# Altium footprint library LD_EDFA.PcbLib: 280 footprints (part 16 of 18)
Each footprint in its own frame and in the unit in brackets; x right, y up, seen from the top. Pads: shape width x height; smd on the part's side, far side on the other; paste and mask are expansions set on the pad; w line width, h text height; cw(c..) or ccw(c..) is an arc to the next point about the centre after c.
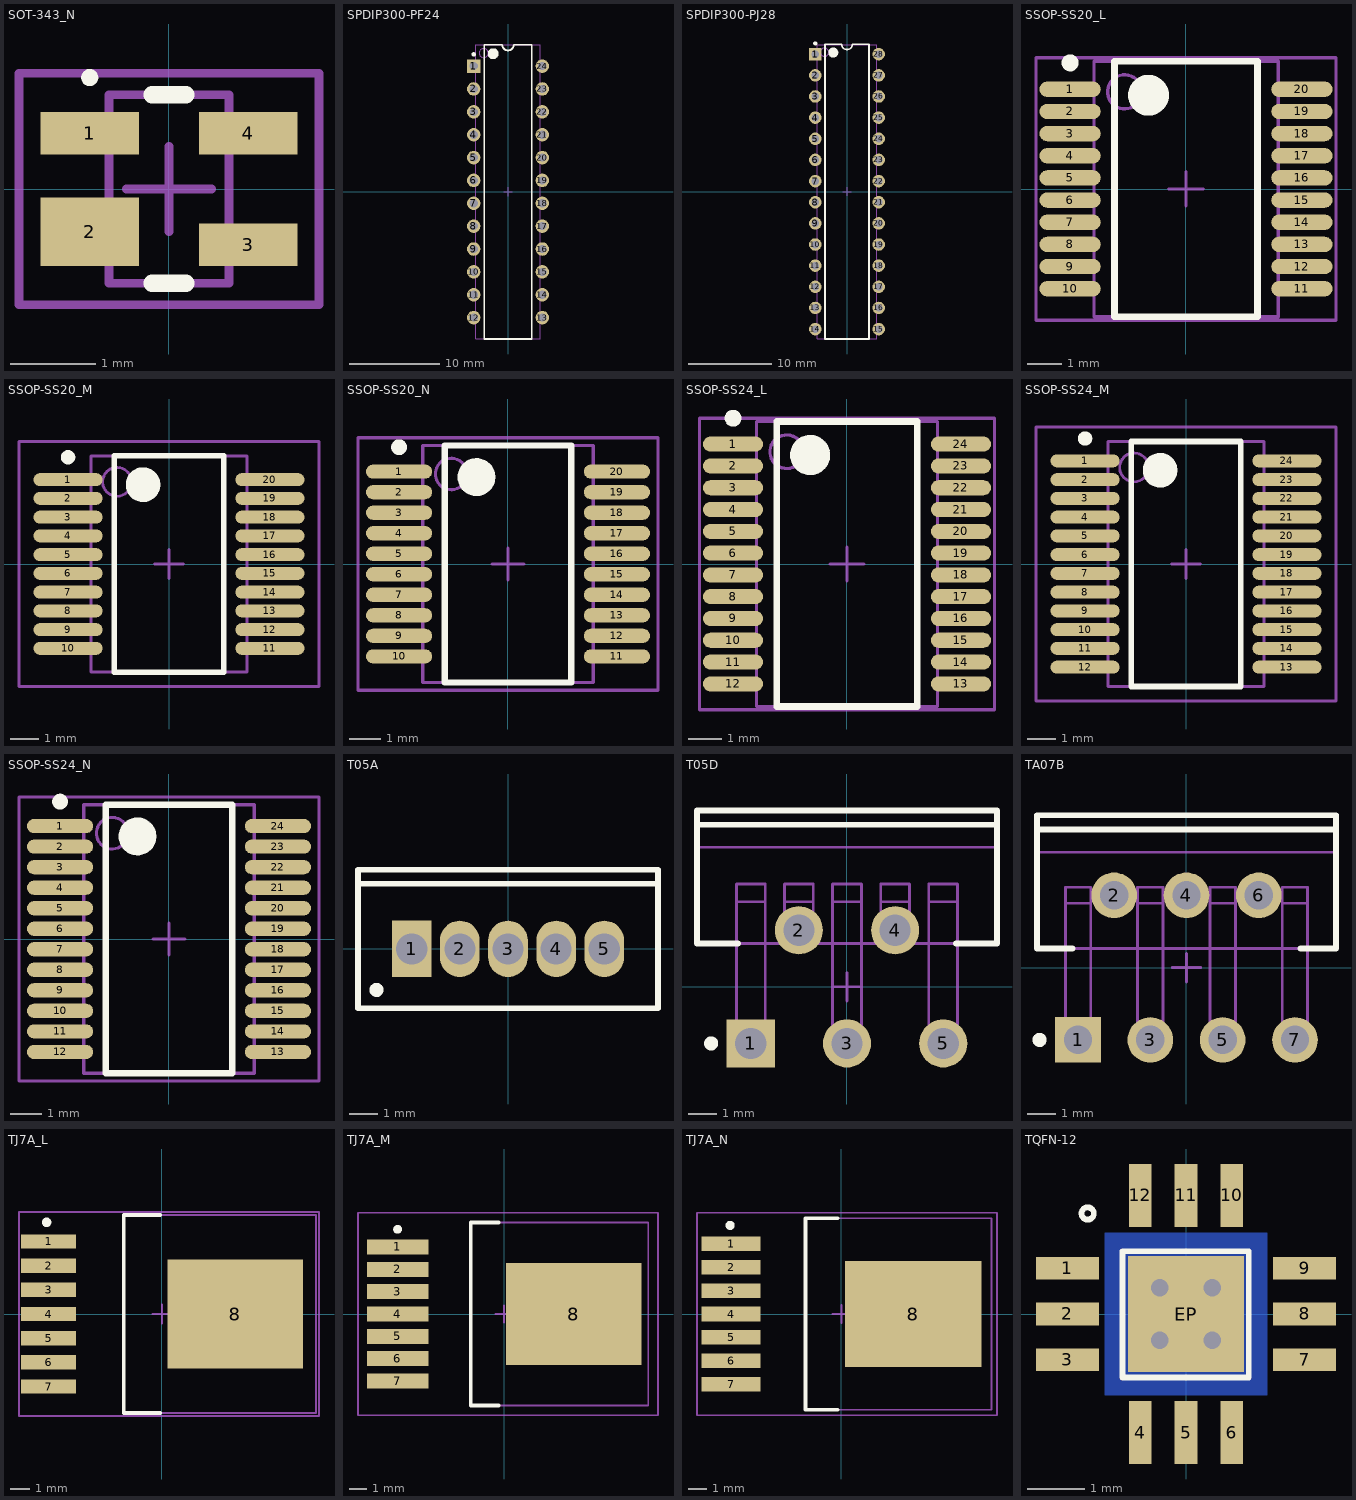
[diagram p15: the footprints below, top view; thin cyan lines are the x and y axes]

## SOT-343_N [mm] "SOT343, 4-Leads, Body 2x1.3 mm, Pitch 1.3mm, Lead Span 2.1mm, IPC Medium Density"
height 1
pads (4):
  rect 1.15x0.5 smd: 1(-0.925,0.65) 3(0.925,-0.65) 4(0.925,0.65)
  rect 1.15x0.8 smd: 2(-0.925,-0.5)
Top Overlay:
  circle w0.1: c-0.925,1.3 r0.05
  lines w0.2: -0.2,-1.1 0.2,-1.1 ; -0.2,1.1 0.2,1.1
Mechanical 13:
  lines w0.1: -0.7,-1.1 -0.7,1.1 0.7,1.1 0.7,-1.1 -0.7,-1.1
Mechanical 15:
  lines w0.1: -0.5,0 0.5,0 ; 0,-0.5 0,0.5 ; -1.75,-1.35 -1.75,1.35 1.75,1.35 1.75,-1.35 -1.75,-1.35
3D body: height 1, standoff 0, extent -0.7,-1.1 0.7,1.1

## SPDIP300-PF24 [mm] "DIP, 24-Leads, Row Spacing 7.62mm, Pitch 2.54mm, Body 30.9x6.6mm"
height 5.34
pads (24):
  rect 1.5x1.5 hole 0.9: 1(-3.81,13.97)
  round 1.5 hole 0.9: 2(-3.81,11.43) 3(-3.81,8.89) 4(-3.81,6.35) 5(-3.81,3.81) 6(-3.81,1.27) 7(-3.81,-1.27) 8(-3.81,-3.81) 9(-3.81,-6.35) 10(-3.81,-8.89) 11(-3.81,-11.43) 12(-3.81,-13.97) 13(3.81,-13.97) 14(3.81,-11.43) 15(3.81,-8.89) 16(3.81,-6.35) 17(3.81,-3.81) 18(3.81,-1.27) 19(3.81,1.27) 20(3.81,3.81) 21(3.81,6.35) 22(3.81,8.89) 23(3.81,11.43) 24(3.81,13.97)
Top Overlay:
  circle w0.6: c-1.65,15.35 r0.3
  circle w0.25: c-3.81,15.27 r0.125
  lines w0.2: -2.65,-16.35 2.65,-16.35 2.65,16.35 0.635,16.35 cw(c0,16.35) -0.635,16.35 -2.65,16.35 -2.65,-16.35
Mechanical 13:
  circle w0.1: c-2.7,15.425 r0.5
  lines w0.1: -3.6,-16.325 3.6,-16.325 3.6,16.325 -3.6,16.325 -3.6,-16.325
Mechanical 15:
  lines w0.1: -0.5,0 0.5,0 ; 0,-0.5 0,0.5
3D body: height 5.34, standoff 0, extent -3.6,-16.325 3.6,16.325

## SPDIP300-PJ28 [mm] "DIP, 28-Leads, Row Spacing 7.62mm, Pitch 2.54mm, Body 34.9x6.8mm"
height 5.08
pads (28):
  rect 1.5x1.5 hole 0.9: 1(-3.81,16.51)
  round 1.5 hole 0.9: 2(-3.81,13.97) 3(-3.81,11.43) 4(-3.81,8.89) 5(-3.81,6.35) 6(-3.81,3.81) 7(-3.81,1.27) 8(-3.81,-1.27) 9(-3.81,-3.81) 10(-3.81,-6.35) 11(-3.81,-8.89) 12(-3.81,-11.43) 13(-3.81,-13.97) 14(-3.81,-16.51) 15(3.81,-16.51) 16(3.81,-13.97) 17(3.81,-11.43) 18(3.81,-8.89) 19(3.81,-6.35) 20(3.81,-3.81) 21(3.81,-1.27) 22(3.81,1.27) 23(3.81,3.81) 24(3.81,6.35) 25(3.81,8.89) 26(3.81,11.43) 27(3.81,13.97) 28(3.81,16.51)
Top Overlay:
  circle w0.25: c-3.81,17.81 r0.125
  circle w0.6: c-1.65,16.7 r0.3
  lines w0.2: -2.65,-17.7 -2.65,17.7 -0.635,17.7 ccw(c0,17.7) 0.635,17.7 2.65,17.7 2.65,-17.7 -2.65,-17.7
Mechanical 13:
  circle w0.1: c-2.7,16.75 r0.5
  lines w0.1: -3.6,-17.65 -3.6,17.65 3.6,17.65 3.6,-17.65 -3.6,-17.65
Mechanical 15:
  lines w0.1: -0.5,0 0.5,0 ; 0,-0.5 0,0.5
3D body: height 5.08, standoff 0, extent -3.6,-17.65 3.6,17.65

## SSOP-SS20_L [mm] "SOP, 20-Leads, Body 7.2x5.2mm, Pitch 0.65mm, IPC High Density"
height 2
pads (20):
  oval 1.8x0.45 smd: 1(-3.4,2.925) 2(-3.4,2.275) 3(-3.4,1.625) 4(-3.4,0.975) 5(-3.4,0.325) 6(-3.4,-0.325) 7(-3.4,-0.975) 8(-3.4,-1.625) 9(-3.4,-2.275) 10(-3.4,-2.925) 11(3.4,-2.925) 12(3.4,-2.275) 13(3.4,-1.625) 14(3.4,-0.975) 15(3.4,-0.325) 16(3.4,0.325) 17(3.4,0.975) 18(3.4,1.625) 19(3.4,2.275) 20(3.4,2.925)
Top Overlay:
  circle w0.25: c-3.4,3.7 r0.125
  circle w0.6: c-1.1,2.75 r0.3
  lines w0.2: -2.1,-3.75 -2.1,3.75 2.1,3.75 2.1,-3.75 -2.1,-3.75
Mechanical 13:
  circle w0.1: c-1.8,2.85 r0.5
  lines w0.1: -2.7,-3.75 -2.7,3.75 2.7,3.75 2.7,-3.75 -2.7,-3.75
Mechanical 15:
  lines w0.1: -0.5,0 0.5,0 ; 0,-0.5 0,0.5 ; -4.4,-3.85 -4.4,3.85 4.4,3.85 4.4,-3.85 -4.4,-3.85
3D body: height 2, standoff 0, extent -2.7,-3.75 2.7,3.75

## SSOP-SS20_M [mm] "SOP, 20-Leads, Body 7.2x5.2mm, Pitch 0.65mm, IPC Low Density"
height 2
pads (20):
  oval 2.4x0.45 smd: 1(-3.5,2.925) 2(-3.5,2.275) 3(-3.5,1.625) 4(-3.5,0.975) 5(-3.5,0.325) 6(-3.5,-0.325) 7(-3.5,-0.975) 8(-3.5,-1.625) 9(-3.5,-2.275) 10(-3.5,-2.925) 11(3.5,-2.925) 12(3.5,-2.275) 13(3.5,-1.625) 14(3.5,-0.975) 15(3.5,-0.325) 16(3.5,0.325) 17(3.5,0.975) 18(3.5,1.625) 19(3.5,2.275) 20(3.5,2.925)
Top Overlay:
  circle w0.6: c-0.9,2.75 r0.3
  circle w0.25: c-3.5,3.7 r0.125
  lines w0.2: -1.9,-3.75 1.9,-3.75 1.9,3.75 -1.9,3.75 -1.9,-3.75
Mechanical 13:
  circle w0.1: c-1.8,2.85 r0.5
  lines w0.1: -2.7,-3.75 2.7,-3.75 2.7,3.75 -2.7,3.75 -2.7,-3.75
Mechanical 15:
  lines w0.1: -0.5,0 0.5,0 ; 0,-0.5 0,0.5 ; -5.2,-4.25 5.2,-4.25 5.2,4.25 -5.2,4.25 -5.2,-4.25
3D body: height 2, standoff 0, extent -2.7,-3.75 2.7,3.75

## SSOP-SS20_N [mm] "SOP, 20-Leads, Body 7.2x5.2mm, Pitch 0.65mm, IPC Medium Density"
height 2
pads (20):
  oval 2.1x0.45 smd: 1(-3.45,2.925) 2(-3.45,2.275) 3(-3.45,1.625) 4(-3.45,0.975) 5(-3.45,0.325) 6(-3.45,-0.325) 7(-3.45,-0.975) 8(-3.45,-1.625) 9(-3.45,-2.275) 10(-3.45,-2.925) 11(3.45,-2.925) 12(3.45,-2.275) 13(3.45,-1.625) 14(3.45,-0.975) 15(3.45,-0.325) 16(3.45,0.325) 17(3.45,0.975) 18(3.45,1.625) 19(3.45,2.275) 20(3.45,2.925)
Top Overlay:
  circle w0.25: c-3.45,3.7 r0.125
  circle w0.6: c-1,2.75 r0.3
  lines w0.2: -2,-3.75 -2,3.75 2,3.75 2,-3.75 -2,-3.75
Mechanical 13:
  circle w0.1: c-1.8,2.85 r0.5
  lines w0.1: -2.7,-3.75 -2.7,3.75 2.7,3.75 2.7,-3.75 -2.7,-3.75
Mechanical 15:
  lines w0.1: -0.5,0 0.5,0 ; 0,-0.5 0,0.5 ; -4.75,-4 -4.75,4 4.75,4 4.75,-4 -4.75,-4
3D body: height 2, standoff 0, extent -2.7,-3.75 2.7,3.75

## SSOP-SS24_L [mm] "SOP, 24-Leads, Body 8.2x5.3mm, Pitch 0.65mm, IPC High Density"
height 2
pads (24):
  oval 1.8x0.45 smd: 1(-3.4,3.575) 2(-3.4,2.925) 3(-3.4,2.275) 4(-3.4,1.625) 5(-3.4,0.975) 6(-3.4,0.325) 7(-3.4,-0.325) 8(-3.4,-0.975) 9(-3.4,-1.625) 10(-3.4,-2.275) 11(-3.4,-2.925) 12(-3.4,-3.575) 13(3.4,-3.575) 14(3.4,-2.925) 15(3.4,-2.275) 16(3.4,-1.625) 17(3.4,-0.975) 18(3.4,-0.325) 19(3.4,0.325) 20(3.4,0.975) 21(3.4,1.625) 22(3.4,2.275) 23(3.4,2.925) 24(3.4,3.575)
Top Overlay:
  circle w0.6: c-1.1,3.25 r0.3
  circle w0.25: c-3.4,4.35 r0.125
  lines w0.2: -2.1,-4.25 2.1,-4.25 2.1,4.25 -2.1,4.25 -2.1,-4.25
Mechanical 13:
  circle w0.1: c-1.8,3.35 r0.5
  lines w0.1: -2.7,-4.25 2.7,-4.25 2.7,4.25 -2.7,4.25 -2.7,-4.25
Mechanical 15:
  lines w0.1: -0.5,0 0.5,0 ; 0,-0.5 0,0.5 ; -4.4,-4.35 4.4,-4.35 4.4,4.35 -4.4,4.35 -4.4,-4.35
3D body: height 2, standoff 0, extent -2.7,-4.25 2.7,4.25

## SSOP-SS24_M [mm] "SOP, 24-Leads, Body 8.2x5.3mm, Pitch 0.65mm, IPC Low Density"
height 2
pads (24):
  oval 2.4x0.45 smd: 1(-3.5,3.575) 2(-3.5,2.925) 3(-3.5,2.275) 4(-3.5,1.625) 5(-3.5,0.975) 6(-3.5,0.325) 7(-3.5,-0.325) 8(-3.5,-0.975) 9(-3.5,-1.625) 10(-3.5,-2.275) 11(-3.5,-2.925) 12(-3.5,-3.575) 13(3.5,-3.575) 14(3.5,-2.925) 15(3.5,-2.275) 16(3.5,-1.625) 17(3.5,-0.975) 18(3.5,-0.325) 19(3.5,0.325) 20(3.5,0.975) 21(3.5,1.625) 22(3.5,2.275) 23(3.5,2.925) 24(3.5,3.575)
Top Overlay:
  circle w0.25: c-3.5,4.35 r0.125
  circle w0.6: c-0.9,3.25 r0.3
  lines w0.2: -1.9,-4.25 -1.9,4.25 1.9,4.25 1.9,-4.25 -1.9,-4.25
Mechanical 13:
  circle w0.1: c-1.8,3.35 r0.5
  lines w0.1: -2.7,-4.25 -2.7,4.25 2.7,4.25 2.7,-4.25 -2.7,-4.25
Mechanical 15:
  lines w0.1: -0.5,0 0.5,0 ; 0,-0.5 0,0.5 ; -5.2,-4.75 -5.2,4.75 5.2,4.75 5.2,-4.75 -5.2,-4.75
3D body: height 2, standoff 0, extent -2.7,-4.25 2.7,4.25

## SSOP-SS24_N [mm] "SOP, 24-Leads, Body 8.2x5.3mm, Pitch 0.65mm, IPC Medium Density"
height 2
pads (24):
  oval 2.1x0.45 smd: 1(-3.45,3.575) 2(-3.45,2.925) 3(-3.45,2.275) 4(-3.45,1.625) 5(-3.45,0.975) 6(-3.45,0.325) 7(-3.45,-0.325) 8(-3.45,-0.975) 9(-3.45,-1.625) 10(-3.45,-2.275) 11(-3.45,-2.925) 12(-3.45,-3.575) 13(3.45,-3.575) 14(3.45,-2.925) 15(3.45,-2.275) 16(3.45,-1.625) 17(3.45,-0.975) 18(3.45,-0.325) 19(3.45,0.325) 20(3.45,0.975) 21(3.45,1.625) 22(3.45,2.275) 23(3.45,2.925) 24(3.45,3.575)
Top Overlay:
  circle w0.6: c-1,3.25 r0.3
  circle w0.25: c-3.45,4.35 r0.125
  lines w0.2: -2,-4.25 2,-4.25 2,4.25 -2,4.25 -2,-4.25
Mechanical 13:
  circle w0.1: c-1.8,3.35 r0.5
  lines w0.1: -2.7,-4.25 2.7,-4.25 2.7,4.25 -2.7,4.25 -2.7,-4.25
Mechanical 15:
  lines w0.1: -0.5,0 0.5,0 ; 0,-0.5 0,0.5 ; -4.75,-4.5 4.75,-4.5 4.75,4.5 -4.75,4.5 -4.75,-4.5
3D body: height 2, standoff 0, extent -2.7,-4.25 2.7,4.25

## T05A [mm] "TO, Thru-Hole, Vertical, Heatsink Mounted; 5 In-Line Leads; Pitch 1.70 mm"
height 19.6
pads (5):
  rect 1.4x2 hole 1.1: 1(-3.4,0)
  oval 1.4x2 hole 1.1: 2(-1.7,0) 3(0,0) 4(1.7,0) 5(3.4,0)
Top Overlay:
  circle w0.25: c-4.65,-1.45 r0.125
  lines w0.2: -5.3,2.3 5.3,2.3 ; -5.3,-2.1 -5.3,2.8 5.3,2.8 5.3,-2.1 -5.3,-2.1
Mechanical 13:
  lines w0.1: -5.3,2.3 5.3,2.3 ; -5.3,-2.1 5.3,-2.1 5.3,2.8 -5.3,2.8 -5.3,-2.1 ; -3.91,-0.28 -2.89,-0.28 -2.89,0.28 -3.91,0.28 -3.91,-0.28 ; -2.21,-0.28 -1.19,-0.28 -1.19,0.28 -2.21,0.28 -2.21,-0.28 ; -0.51,-0.28 0.51,-0.28 0.51,0.28 -0.51,0.28 -0.51,-0.28 ; 1.19,-0.28 2.21,-0.28 2.21,0.28 1.19,0.28 1.19,-0.28 ; 2.89,-0.28 3.91,-0.28 3.91,0.28 2.89,0.28 2.89,-0.28
Mechanical 15:
  lines w0.1: -0.5,0 0.5,0 ; 0,-0.5 0,0.5
3D body: height 4.1, standoff 0, extent -0.509,-0.279 0.509,0.279
3D body: height 4.1, standoff 0, extent 2.891,-0.279 3.909,0.279
3D body: height 4.1, standoff 0, extent 1.191,-0.279 2.209,0.279
3D body: height 4.1, standoff 0, extent -2.209,-0.279 -1.191,0.279
3D body: height 4.1, standoff 0, extent -3.909,-0.279 -2.891,0.279
3D body: height 19.6, standoff 13, extent -5.299,2.301 5.299,2.799
3D body: height 13, standoff 4.1, extent -5.35,-2.15 5.35,2.85

## T05D [mm] "TO, Thru-Hole, Vertical, Heatsink Mounted; 5 Bent Staggered Leads; Body 10.3x8.6x4.6mm, Pitch 1.7 mm"
height 21.1
pads (5):
  rect 1.7x1.7 hole 1.1: 1(-3.4,-2)
  round 1.7 hole 1.1: 2(-1.7,2) 3(0,-2) 4(1.7,2) 5(3.4,-2)
Top Overlay:
  circle w0.25: c-4.8,-2 r0.125
  lines w0.2: -5.3,5.73 5.3,5.73 ; -3.854,1.53 -5.3,1.53 -5.3,6.23 5.3,6.23 5.3,1.53 3.854,1.53
Mechanical 13:
  lines w0.1: -5.3,4.93 5.3,4.93 ; -3.91,-1.685 -3.91,3.005 ; -3.91,-1.685 -2.89,-1.685 ; -3.91,-1.685 -3.91,-2.315 -2.89,-2.315 -2.89,-1.685 ; -3.91,3.005 -3.91,3.635 -2.89,3.635 -2.89,3.005 ; -3.91,3.005 -2.89,3.005 ; -2.89,-1.685 -2.89,3.005 ; -2.21,2.315 -2.21,3.005 ; -2.21,2.315 -1.19,2.315 ; -2.21,2.315 -2.21,1.685 -1.19,1.685 -1.19,2.315 ; -2.21,3.005 -2.21,3.635 -1.19,3.635 -1.19,3.005 ; -2.21,3.005 -1.19,3.005 ; -1.19,2.315 -1.19,3.005 ; -0.51,-1.685 -0.51,-2.315 0.51,-2.315 0.51,-1.685 ; -0.51,-1.685 0.51,-1.685 ; -0.51,-1.685 -0.51,3.005 ; -0.51,3.005 0.51,3.005 ; -0.51,3.005 -0.51,3.635 0.51,3.635 0.51,3.005 ; 0.51,-1.685 0.51,3.005 ; 1.19,2.315 1.19,3.005 ; 1.19,2.315 2.21,2.315 ; 1.19,2.315 1.19,1.685 2.21,1.685 2.21,2.315 ; 1.19,3.005 1.19,3.635 2.21,3.635 2.21,3.005 ; 1.19,3.005 2.21,3.005 ; 2.21,2.315 2.21,3.005 ; 2.89,-1.685 3.91,-1.685 ; 2.89,-1.685 2.89,-2.315 3.91,-2.315 3.91,-1.685 ; 2.89,-1.685 2.89,3.005 ; 2.89,3.005 2.89,3.635 3.91,3.635 3.91,3.005 ; 2.89,3.005 3.91,3.005 ; 3.91,-1.685 3.91,3.005 ; -5.3,1.53 5.3,1.53 5.3,6.23 -5.3,6.23 -5.3,1.53
Mechanical 15:
  lines w0.1: -0.5,0 0.5,0 ; 0,-0.5 0,0.5
3D body: height 21.1, standoff 14.5, extent -5.299,4.931 5.299,6.229
3D body: height 14.5, standoff 5.6, extent -5.35,1.48 5.35,6.28
3D body: height 5.6, standoff 1.95, extent -2.209,3.006 -1.191,3.634
3D body: height 5.6, standoff 1.95, extent -0.509,3.006 0.509,3.634
3D body: height 5.6, standoff 1.95, extent 1.191,3.006 2.209,3.634
3D body: height 5.6, standoff 1.95, extent 2.891,3.006 3.909,3.634
3D body: height 0.93, standoff 0, extent 1.191,1.686 2.209,2.314
3D body: height 0.93, standoff 0, extent -2.209,1.686 -1.191,2.314
3D body: height 2.26, standoff 0.63, extent -2.209,2.316 -1.191,3.004
3D body: height 2.26, standoff 0.63, extent 1.191,2.316 2.209,3.004
3D body: height 2.26, standoff 1.42, extent 2.891,1.531 3.909,3.004
3D body: height 2.26, standoff 1.42, extent -3.909,1.531 -2.891,3.004
3D body: height 2.26, standoff 1.42, extent -0.509,1.531 0.509,3.004
3D body: height 0.93, standoff 0, extent -3.909,-2.314 -2.891,-1.686
3D body: height 0.93, standoff 0, extent -0.509,-2.314 0.509,-1.686
3D body: height 0.93, standoff 0, extent 2.891,-2.314 3.909,-1.686
3D body: height 1.72, standoff 0.63, extent -3.909,-1.684 -2.891,1.529
3D body: height 1.72, standoff 0.63, extent -0.509,-1.684 0.509,1.529
3D body: height 1.72, standoff 0.63, extent 2.891,-1.684 3.909,1.529
3D body: height 5.6, standoff 1.95, extent -3.909,3.006 -2.891,3.634

## TA07B [mm] "TO, Thru-Hole, Vertical, Heatsink Mounted; 7 Bent Staggered Leads; Body 10.2x8.7x4.6mm, Pitch 1.27 mm"
height 20.9
pads (7):
  rect 1.6x1.6 hole 1: 1(-3.81,-2.54)
  round 1.6 hole 1: 2(-2.54,2.54) 3(-1.27,-2.54) 4(0,2.54) 5(1.27,-2.54) 6(2.54,2.54) 7(3.81,-2.54)
Top Overlay:
  circle w0.25: c-5.16,-2.54 r0.125
  lines w0.2: -5.25,4.85 5.25,4.85 ; -4,0.67 -5.25,0.67 -5.25,5.35 5.25,5.35 5.25,0.67 4,0.67
Mechanical 13:
  lines w0.1: -5.25,4.05 5.25,4.05 ; -4.255,-2.26 -4.255,-2.82 -3.365,-2.82 -3.365,-2.26 ; -4.255,-2.26 -3.365,-2.26 ; -4.255,-2.26 -4.255,2.26 ; -4.255,2.26 -3.365,2.26 ; -4.255,2.26 -4.255,2.82 -3.365,2.82 -3.365,2.26 ; -3.365,-2.26 -3.365,2.26 ; -1.715,-2.26 -1.715,-2.82 -0.825,-2.82 -0.825,-2.26 ; -1.715,-2.26 -0.825,-2.26 ; -1.715,-2.26 -1.715,2.26 ; -1.715,2.26 -0.825,2.26 ; -1.715,2.26 -1.715,2.82 -0.825,2.82 -0.825,2.26 ; -0.825,-2.26 -0.825,2.26 ; 0.825,-2.26 0.825,-2.82 1.715,-2.82 1.715,-2.26 ; 0.825,-2.26 1.715,-2.26 ; 0.825,-2.26 0.825,2.26 ; 0.825,2.26 1.715,2.26 ; 0.825,2.26 0.825,2.82 1.715,2.82 1.715,2.26 ; 1.715,-2.26 1.715,2.26 ; 3.365,-2.26 3.365,2.26 ; 3.365,-2.26 3.365,-2.82 4.255,-2.82 4.255,-2.26 ; 3.365,-2.26 4.255,-2.26 ; 3.365,2.26 4.255,2.26 ; 3.365,2.26 3.365,2.82 4.255,2.82 4.255,2.26 ; 4.255,-2.26 4.255,2.26 ; -5.25,0.67 5.25,0.67 5.25,5.35 -5.25,5.35 -5.25,0.67 ; -2.985,2.26 -2.095,2.26 -2.095,2.82 -2.985,2.82 -2.985,2.26 ; -0.445,2.26 0.445,2.26 0.445,2.82 -0.445,2.82 -0.445,2.26 ; 2.095,2.26 2.985,2.26 2.985,2.82 2.095,2.82 2.095,2.26
Mechanical 15:
  lines w0.1: -0.5,0 0.5,0 ; 0,-0.5 0,0.5
3D body: height 20.9, standoff 14.35, extent -5.249,4.051 5.249,5.349
3D body: height 5.4, standoff 3.3, extent 0.826,2.261 1.714,2.819
3D body: height 5.4, standoff 3.3, extent 3.366,2.261 4.254,2.819
3D body: height 5.4, standoff 0, extent 2.096,2.261 2.984,2.819
3D body: height 5.4, standoff 0, extent -0.444,2.261 0.444,2.819
3D body: height 5.4, standoff 3.3, extent -4.254,2.261 -3.366,2.819
3D body: height 5.4, standoff 0, extent -2.984,2.261 -2.096,2.819
3D body: height 5.4, standoff 3.3, extent -1.714,2.261 -0.826,2.819
3D body: height 3.69, standoff 2.15, extent -4.254,0.671 -3.366,2.259
3D body: height 3.69, standoff 2.15, extent -1.714,0.671 -0.826,2.259
3D body: height 3.69, standoff 2.15, extent 0.826,0.671 1.714,2.259
3D body: height 3.69, standoff 2.15, extent 3.366,0.671 4.254,2.259
3D body: height 2.45, standoff 0.45, extent 3.366,-2.259 4.254,0.669
3D body: height 2.45, standoff 0.45, extent 0.826,-2.259 1.714,0.669
3D body: height 2.45, standoff 0.45, extent -4.254,-2.259 -3.366,0.669
3D body: height 2.45, standoff 0.45, extent -1.714,-2.259 -0.826,0.669
3D body: height 0.7, standoff 0, extent 0.826,-2.819 1.714,-2.261
3D body: height 0.7, standoff 0, extent -4.254,-2.819 -3.366,-2.261
3D body: height 0.7, standoff 0, extent -1.714,-2.819 -0.826,-2.261
3D body: height 0.7, standoff 0, extent 3.366,-2.819 4.254,-2.261
3D body: height 14.35, standoff 5.4, extent -5.3,0.62 5.3,5.4

## TJ7A_L [mm] "D2-PAK, 8-Leads, Body 9.9x10.2mm, Pitch 1.27mm, Lead Span 14mm, IPC High Density"
height 2.1
pads (8):
  rect 2.9x0.75 smd: 1(-5.95,3.81) 2(-5.95,2.54) 3(-5.95,1.27) 4(-5.95,0) 5(-5.95,-1.27) 6(-5.95,-2.54) 7(-5.95,-3.81)
  rect 7.1x5.7 smd: 8(3.85,0)
Top Overlay:
  circle w0.25: c-6.05,4.815 r0.125
  lines w0.2: -0.1,-5.2 -2,-5.2 -2,5.2 -0.1,5.2
Mechanical 13:
  lines w0.1: -2,-5.2 8.1,-5.2 8.1,5.2 -2,5.2 -2,-5.2
Mechanical 15:
  lines w0.1: -0.5,0 0.5,0 ; 0,-0.5 0,0.5 ; -7.5,-5.35 8.25,-5.35 8.25,5.35 -7.5,5.35 -7.5,-5.35
3D body: height 2.1, standoff 0, extent -1.999,-5.199 8.099,5.199

## TJ7A_M [mm] "D2-PAK, 8-Leads, Body 9.9x10.2mm, Pitch 1.27mm, Lead Span 14mm, IPC Low Density"
height 2.1
pads (8):
  rect 3.5x0.85 smd: 1(-6.05,3.81) 2(-6.05,2.54) 3(-6.05,1.27) 4(-6.05,0) 5(-6.05,-1.27) 6(-6.05,-2.54) 7(-6.05,-3.81)
  rect 7.7x5.8 smd: 8(3.95,0)
Top Overlay:
  circle w0.25: c-6.05,4.815 r0.125
  lines w0.2: -0.3,-5.2 -1.9,-5.2 -1.9,5.2 -0.3,5.2
Mechanical 13:
  lines w0.1: -1.9,-5.2 -1.9,5.2 8.2,5.2 8.2,-5.2 -1.9,-5.2
Mechanical 15:
  lines w0.1: -0.5,0 0.5,0 ; 0,-0.5 0,0.5 ; -8.3,-5.75 -8.3,5.75 8.75,5.75 8.75,-5.75 -8.3,-5.75
3D body: height 2.1, standoff 0, extent -1.899,-5.199 8.199,5.199

## TJ7A_N [mm] "D2-PAK, 8-Leads, Body 9.9x10.2mm, Pitch 1.27mm, Lead Span 14mm, IPC Medium Density"
height 2.1
pads (8):
  rect 3.2x0.8 smd: 1(-6,3.81) 2(-6,2.54) 3(-6,1.27) 4(-6,0) 5(-6,-1.27) 6(-6,-2.54) 7(-6,-3.81)
  rect 7.4x5.75 smd: 8(3.9,0)
Top Overlay:
  circle w0.25: c-6.05,4.815 r0.125
  lines w0.2: -0.2,-5.2 -1.95,-5.2 -1.95,5.2 -0.2,5.2
Mechanical 13:
  lines w0.1: -1.95,-5.2 8.15,-5.2 8.15,5.2 -1.95,5.2 -1.95,-5.2
Mechanical 15:
  lines w0.1: -0.5,0 0.5,0 ; 0,-0.5 0,0.5 ; -7.85,-5.5 8.45,-5.5 8.45,5.5 -7.85,5.5 -7.85,-5.5
3D body: height 2.1, standoff 0, extent -1.949,-5.199 8.149,5.199

## TQFN-12 [mm]
height 2
pads (13):
  rect 1.1x0.4 smd: 1(-2.075,0.8) 2(-2.075,0) 3(-2.075,-0.8) 7(2.075,-0.8) 8(2.075,0) 9(2.075,0.8)
  rect 0.4x1.1 smd: 4(-0.8,-2.075) 5(0,-2.075) 6(0.8,-2.075) 10(0.8,2.075) 11(0,2.075) 12(-0.8,2.075)
  rect 2.032x2.032 smd: EP(0,0)
via -0.457,-0.457 diameter 0.635 hole 0.305
via 0.457,-0.457 diameter 0.635 hole 0.305
via 0.457,0.457 diameter 0.635 hole 0.305
via -0.457,0.457 diameter 0.635 hole 0.305
Bottom Layer:
  rectangle: -1.422,-1.422 1.422,1.422
Top Overlay:
  lines w0.1: -1.769,1.663 cw(c-1.721,1.759) -1.747,1.655 ; -1.111,-1.111 -1.111,1.099 1.099,1.099 1.099,-1.111 -1.111,-1.111